# Altium integrated library XC95144XL DEVBOARD.IntLib: 11 symbols
Pins are listed as number, name and electrical type; pins without a type are passive.

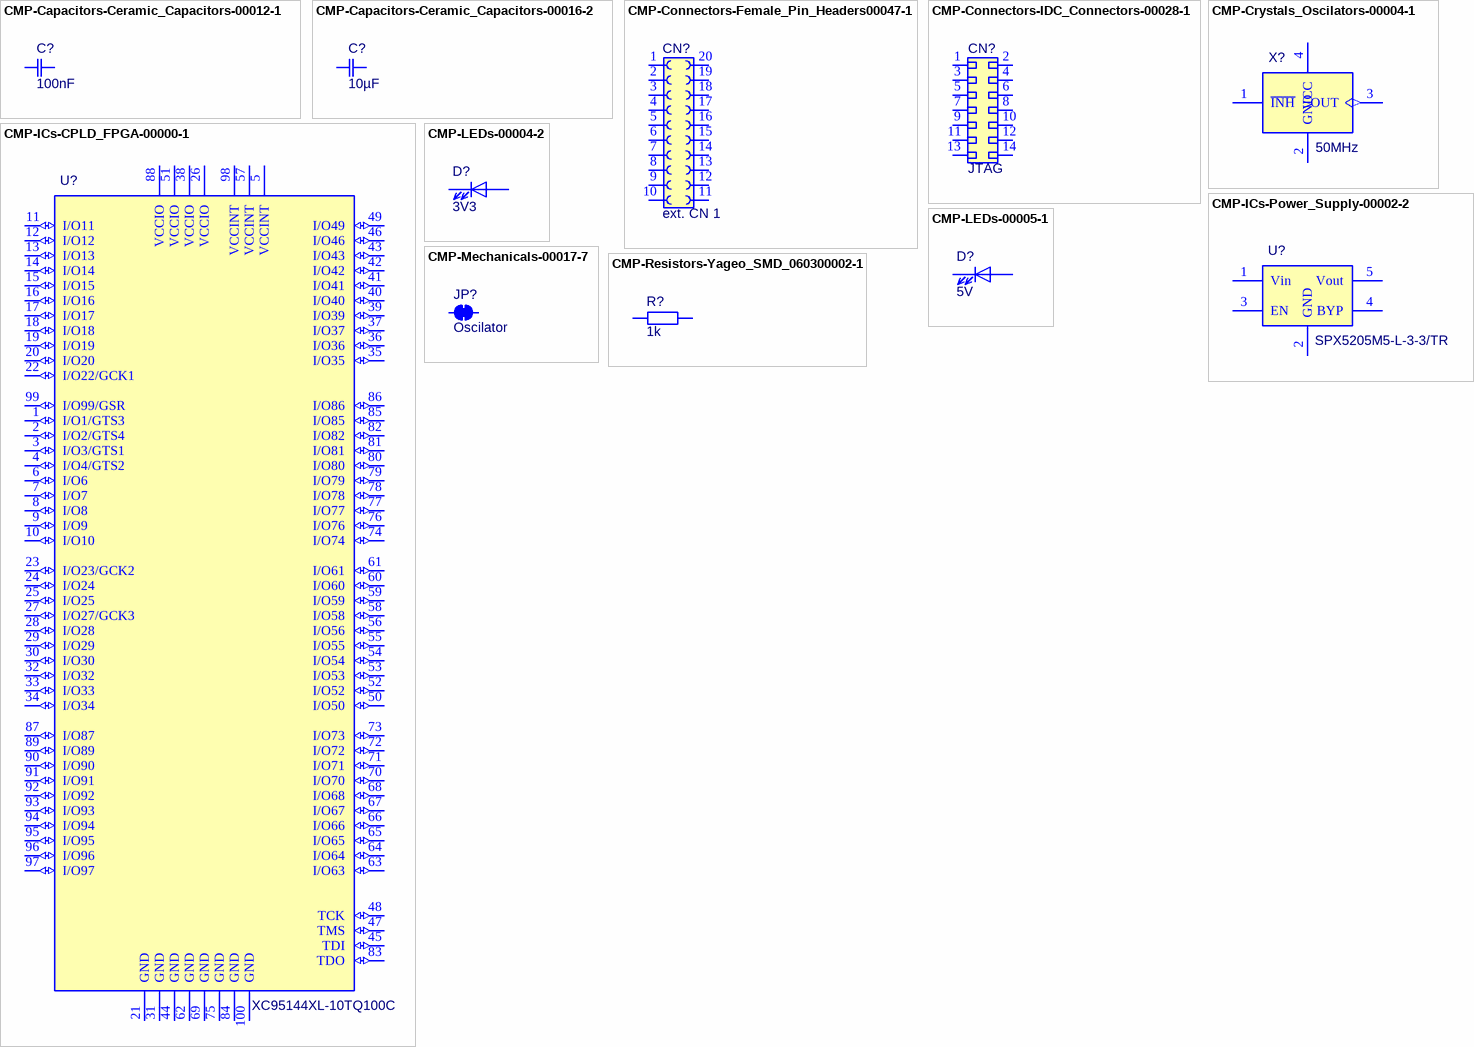
[diagram p0: symbols CMP-Capacitors-Ceramic_Capacitors-00012-1 to CMP-Resistors-Yageo_SMD_060300002-1]

## CMP-Capacitors-Ceramic_Capacitors-00012-1
designator C?, comment 100nF
KEMET         C0603C104J3RACTU             SMD Multilayer Ceramic Capacitor, 0603 [1608 Metric], 0.1 F, 25 V,  5%, X7R, C Series; Voltage Rating (DC): 25V; Height: 0.8mm; Dielectric: X7R; Case Code (Metric): 1608; Width: 0.031inch; Depth: 0.8mm; Min Operating Temperature: -55°C; Number of Pins: 2; Mount: Surface Mount,PCB; REACH SVHC: No SVHC; Packaging: Tape and Reel; Case Code (Imperial): 0603; Contact Plating: Tin,Matte; Length: 1.6mm; Case/Package: 0603; Lead Pitch: 0.7mm; Package Quantity: 4000; Tolerance: 5%; Radiation Hardening: No; Dielectric Material: Ceramic; Voltage: 25V; Termination: SMD/SMT; Capacitance: 100nF; Voltage Rating: 25V; Thickness: 0.034inch; Max Operating Temperature: 125°C; Manufacturer: KEMET; Manufacturer Part Number: C0603C104J3RACTU; Component Type: Ceramic Capacitors
footprint CAP 100nF SMD 0603 C0603C104J3RACTU (Chip Capacitor, 2-Leads, Body 1,60x0,80mm, IPC Medium Density)
pins: 1, 2

## CMP-Capacitors-Ceramic_Capacitors-00016-2
designator C?, comment 10µF
KEMET - C0805C106K8RACTU - CAP, 10µF, 10V, 10%, X7R, 0805; Dissipation Factor: 7.5%; Dielectric Material: Ceramic; Capacitance: 10uF; Max Operating Temperature: 125°C; Packaging: Tape and Reel; Case Code (Imperial): 0805; Depth: 1.25mm; Voltage: 10V; Voltage Rating (DC): 10V; Mount: Surface Mount,PCB; Min Operating Temperature: -55°C; Case Code (Metric): 2012; Case/Package: 0805; Thickness: 0.055inch; Termination: SMD/SMT; Voltage Rating: 10V; Height: 1.25mm; Dielectric: X7R; Width: 1.2mm; Package Quantity: 1; Length: 2mm; REACH SVHC: No SVHC; Tolerance: 10%; Manufacturer: KEMET; Manufacturer Part Number: C0805C106K8RACTU; Component Type: Ceramic Capacitors
footprint Kemet C0805CxxxK8RACTU Series H=1.4mm
pins: 1, 2

## CMP-Connectors-Female_Pin_Headers00047-1
designator CN?, comment ext. CN 1
Headers & Wire Housings 10+10 VERT SOCKET DIL; Manufacturer: Harwin; Manufacturer Part Number: M20-7831042; Connector Type: Receptacle,Socket; Row Spacing: 0.1inch; Contact Resistance: 20mR; Gender: Female; Pitch: 2.54mm; Number of Contacts: 20; Max Current Rating: 3A; Depth: 5.04mm; Termination: Solder; Mount: Through Hole; Contact Gender: Female; Housing Color: Black; Package Quantity: 23; Number of Rows: 2; Color: Black; Radiation Hardening: No; Packaging: Rail/Tube; Orientation: Straight; Contact Material: Bronze; REACH SVHC: No SVHC; Contact Plating: Gold,Tin; Max Operating Temperature: 105°C; Min Operating Temperature: -40°C; Length: 25.8mm; Number of Positions: 20; Housing Material: Polyamide; Component Type: Female PIN Headers
footprint Female Pin Header 02x10 Straight P2.54mm H8.5mm
pins: 1, 2, 3, 4, 5, 6, 7, 8, 9, 10, 11, 12, 13, 14, 15, 16, 17, 18, 19, 20

## CMP-Connectors-IDC_Connectors-00028-1
designator CN?, comment JTAG
Conn Shrouded Header HDR 14 POS 2.54mm Solder ST Thru-Hole; Manufacturer: Samtec; Manufacturer Part Number: TSS-107-01-G-D; Row Spacing: 0.1inch; Connector Type: Male Pin; Number of Positions: 14; Gender: Male; REACH SVHC: No SVHC; Package Quantity: 1; Contact Material: Bronze; Packaging: Bulk; Length: 21.59mm; Max Operating Temperature: 125°C; Orientation: Straight; Min Operating Temperature: -55°C; Depth: 9.27mm; Contact Mating Length: 0.25inch; Color: Black; Pitch: 2.54mm; Contact Plating: Gold; Termination: Solder; Mount: Through Hole; Number of Contacts: 14; Housing Material: Polyester; Radiation Hardening: No; Number of Rows: 2; Housing Color: Black; Component Type: IDC Connectors
footprint IDC Header 2x7 P2.54mm Straight
pins: 1, 2, 3, 4, 5, 6, 7, 8, 9, 10, 11, 12, 13, 14

## CMP-Crystals_Oscilators-00004-1
designator X?, comment 50MHz
XO53050UITA-50.000, Crystal Oscillator, 50 MHz, 50ppm HCMOS, LSTTL 15pF, 4-Pin SMD, 5 x 3.2 x 1mm; Frequency Stability: 50ppm; Case/Package: SMD/SMT; Min Operating Temperature: -40°C; Width: 3.2mm; Height: 1mm; Mount: Surface Mount; Max Operating Temperature: 85°C; Length: 5mm; Number of Pins: 4; Load Capacitance: 15pF; Component Type: Crystals and Oscilators
footprint 50.000MHZ Oscilator EuroQuartz XO53050UITA
pins: 1 ~{INH}, 2 GND, 3 OUT (out), 4 VCC (power)

## CMP-ICs-CPLD_FPGA-00000-1
designator U?, comment XC95144XL-10TQ100C
IC CPLD 144MC 7.5NS 100TQFP; Manufacturer: Xilinx; Manufacturer Part Number: XC95144XL-7TQ100C; Speed Grade: 7; Operating Supply Voltage: 3.3V; Max Supply Voltage: 3.6V; Number of Gates: 3200; Min Supply Voltage: 3V; Number of I/Os: 81; Number of Macrocells: 144; Number of Logic Blocks (LABs): 8; Max Frequency: 125MHz; Memory Type: FLASH; Turn-On Delay Time: 7.5ns; Mount: Surface Mount; Number of Pins: 100; Propagation Delay: 7.5ns; Package Quantity: 90; Case/Package: LQFP; Contact Plating: Tin,Lead; Packaging: Tray; Lead Free: Contains Lead; Min Operating Temperature: 0°C; Number of Logic Elements/Cells: 8; Max Operating Temperature: 70°C; Component Type: CPLD-FPGA
footprint TQFP-100 P0.5mm XC95144XL-7TQ100C (TSQFP, 100-Leads, Body 14,00x14,00mm, Pitch 0,50mm, IPC Medium Density)
pins: 1 I/O1/GTS3 (io), 2 I/O2/GTS4 (io), 3 I/O3/GTS1 (io), 4 I/O4/GTS2 (io), 5 VCCINT (power), 6 I/O6 (io), 7 I/O7 (io), 8 I/O8 (io), 9 I/O9 (io), 10 I/O10 (io), 11 I/O11 (io), 12 I/O12 (io), 13 I/O13 (io), 14 I/O14 (io), 15 I/O15 (io), 16 I/O16 (io), 17 I/O17 (io), 18 I/O18 (io), 19 I/O19 (io), 20 I/O20 (io), 21 GND, 22 I/O22/GCK1 (io), 23 I/O23/GCK2 (io), 24 I/O24 (io), 25 I/O25 (io), 26 VCCIO (power), 27 I/O27/GCK3 (io), 28 I/O28 (io), 29 I/O29 (io), 30 I/O30 (io), 31 GND, 32 I/O32 (io), 33 I/O33 (io), 34 I/O34 (io), 35 I/O35 (io), 36 I/O36 (io), 37 I/O37 (io), 38 VCCIO (power), 39 I/O39 (io), 40 I/O40 (io), 41 I/O41 (io), 42 I/O42 (io), 43 I/O43 (io), 44 GND, 45 TDI (io), 46 I/O46 (io), 47 TMS (io), 48 TCK (io), 49 I/O49 (io), 50 I/O50 (io), 51 VCCIO (power), 52 I/O52 (io), 53 I/O53 (io), 54 I/O54 (io), 55 I/O55 (io), 56 I/O56 (io), 57 VCCINT (power), 58 I/O58 (io), 59 I/O59 (io), 60 I/O60 (io), 61 I/O61 (io), 62 GND, 63 I/O63 (io), 64 I/O64 (io), 65 I/O65 (io), 66 I/O66 (io), 67 I/O67 (io), 68 I/O68 (io), 69 GND, 70 I/O70 (io), 71 I/O71 (io), 72 I/O72 (io), 73 I/O73 (io), 74 I/O74 (io), 75 GND, 76 I/O76 (io), 77 I/O77 (io), 78 I/O78 (io), 79 I/O79 (io), 80 I/O80 (io), 81 I/O81 (io), 82 I/O82 (io), 83 TDO (io), 84 GND, 85 I/O85 (io), 86 I/O86 (io), 87 I/O87 (io), 88 VCCIO (power), 89 I/O89 (io), 90 I/O90 (io), 91 I/O91 (io), 92 I/O92 (io), 93 I/O93 (io), 94 I/O94 (io), 95 I/O95 (io), 96 I/O96 (io), 97 I/O97 (io), 98 VCCINT (power), 99 I/O99/GSR (io), 100 GND

## CMP-ICs-Power_Supply-00002-2
designator U?, comment SPX5205M5-L-3-3/TR
LDO Regulator Pos 3.3V 0.15A 5-Pin SOT-23 T/R; Manufacturer: Exar; Min Input Voltage: 2.5V; Number of Outputs: 1; Dropout Voltage: 210mV; Accuracy: 1%; Polarity: Positive; Max Input Voltage: 16V; Output Type: Fixed; Output Current: 150mA; Quiescent Current: 1uA; Packaging: Tape and Reel; Lead Free: Lead Free; Case/Package: SOT-23; Height: 1.15mm; Number of Regulators: 1; Max Operating Temperature: 125°C; Min Operating Temperature: -40°C; Output Voltage: 3.3V; Width: 1.6mm; Radiation Hardening: No; Mount: Surface Mount; Length: 2.9mm; Max Output Current: 150mA; Min Output Voltage: 3.3V; Number of Pins: 5; Manufacturer Part Number: SPX5205M5-L-3-3/TR; Component Type: Power Supplies
footprint SOT-23-5
pins: 1 Vin (power), 2 GND (power), 3 EN, 4 BYP, 5 Vout (power)

## CMP-LEDs-00004-2
designator D?, comment 3V3
LED BLUE DIFFUSED 0603 SMD; Manufacturer: Wurth Electronics; Manufacturer Part Number: 150060BS55040; Dominant Wavelength: 470nm; Test Current: 20mA; Lens Style: Flat; Viewing Angle: 140°; Forward Voltage: 3.2V; Lens Size: 0.8mm; Luminous Intensity: 80mcd; Color: Blue; Case/Package: 0603; Mount: Surface Mount; Width: 0.8mm; Lens Transparency: Diffused; Length: 1.6mm; Height: 0.5mm; Packaging: Tape and Reel; Component Type: LEDs
footprint LED Green SMD 0603
pins: 1, 2

## CMP-LEDs-00005-1
designator D?, comment 5V
LED RED DIFFUSED 0603 SMD; Manufacturer: Wurth Electronics; Manufacturer Part Number: 150060SS55040; Viewing Angle: 140°; Dominant Wavelength: 630nm; Luminous Intensity: 70mcd; Forward Voltage: 2V; Test Current: 20mA; Lens Style: Flat; Lens Size: 0.8mm; Lens Transparency: Diffused; Packaging: Tape and Reel; Case/Package: 0603; Case Code (Imperial): 0603; Width: 0.8mm; Length: 1.6mm; Height: 0.5mm; Case Code (Metric): 1608; Color: Red; Mount: Surface Mount; Component Type: LEDs
footprint LED Red SMD 0603
pins: 1, 2

## CMP-Mechanicals-00017-7
designator JP?, comment Oscilator  (net tie, no BOM)
Solder Jumper Closed; Component Type: Mechanicals
footprint Solder Jumper Closed
pins: 1, 2

## CMP-Resistors-Yageo_SMD_060300002-1
designator R?, comment 1k
RES SMD 1K OHM 1% 1/10W 0603; Manufacturer: Yageo; Manufacturer Part Number: RC0603FR-071KL; Power Rating: 100mW; Resistance: 1kR; Voltage Rating: 50V; Temperature Coefficient: 100ppm/°C; Case/Package: 0603; REACH SVHC: No SVHC; Length: 1.6mm; Tolerance: 1%; Case Code (Metric): 1608; Contact Plating: Tin,Matte; Height: 0.45mm; Case Code (Imperial): 0603; Packaging: Tape and Reel; Max Operating Temperature: 155°C; Military Standard: Not; Lead Free: Lead Free; Depth: 0.8mm; Termination: SMD/SMT; Min Operating Temperature: -55°C; Composition: Thick Film; Radiation Hardening: No; Component Type: Yageo SMD 0603
footprint 1k Ohm R 0603 SMD (Chip Resistor 2-Leads, Body 1,60x0,80mm, IPC Medium Density)
pins: 1, 2